# Altium footprint library WE-BMS.PcbLib: 9 footprints
Each footprint in its own frame and in the unit in brackets; x right, y up, seen from the top. Pads: shape width x height; smd on the part's side, far side on the other; paste and mask are expansions set on the pad; w line width, h text height; cw(c..) or ccw(c..) is an arc to the next point about the centre after c.
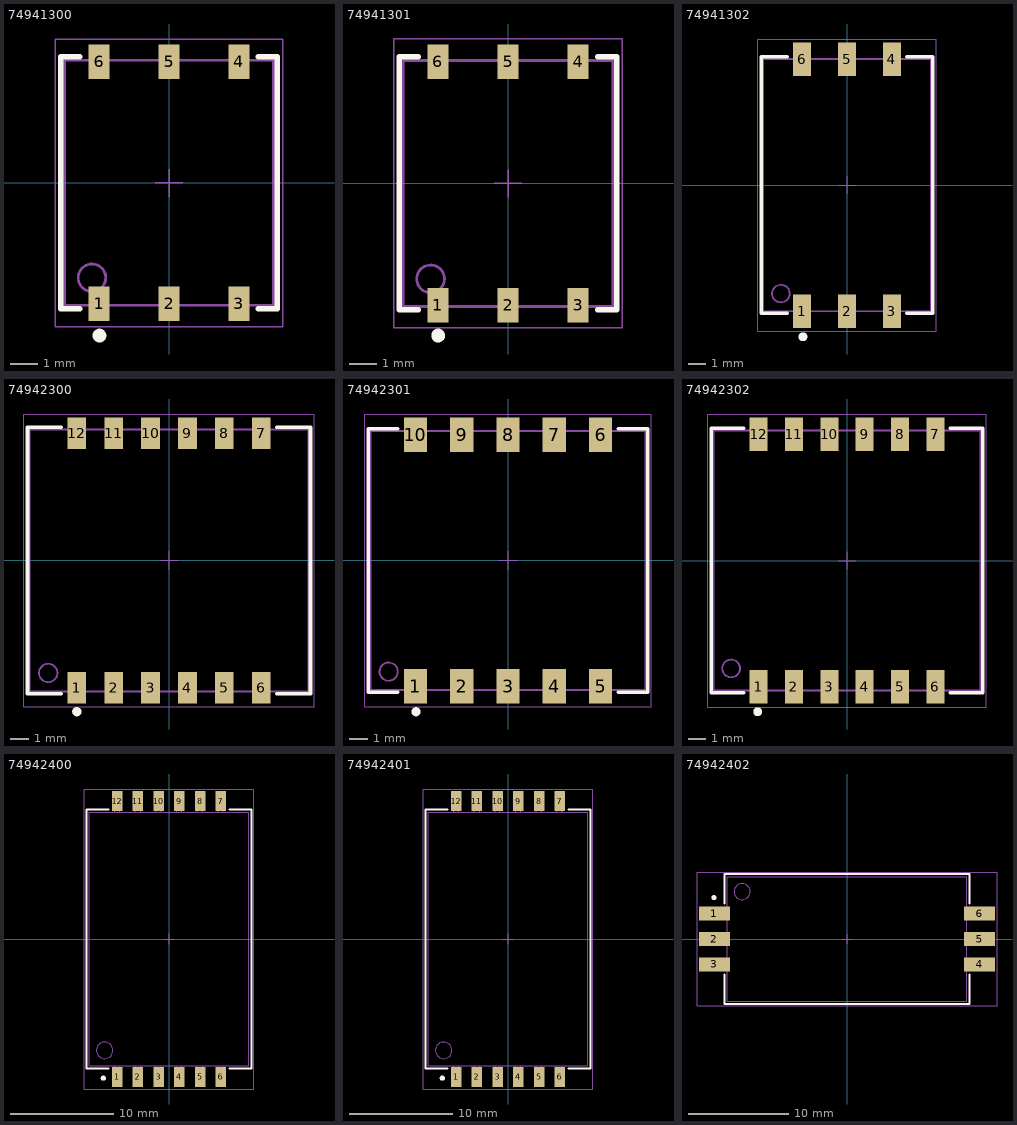
[diagram p0: the footprints below, top view; thin cyan lines are the x and y axes]

## 74941300 [mm] "SMT transformer, body 7.60x9.50mm"
height 5.75
pads (6):
  rect 0.76x1.25 smd: 1(-2.54,-4.4) 2(0,-4.4) 3(2.54,-4.4) 4(2.54,4.4) 5(0,4.4) 6(-2.54,4.4)
Top Overlay:
  circle w0.25: c-2.525,-5.55 r0.125
  lines w0.2: -3.25,-4.575 -3.925,-4.575 -3.925,4.575 -3.25,4.575 ; 3.25,-4.575 3.925,-4.575 3.925,4.575 3.25,4.575
Top Component Outline:
  circle w0.1: c-2.8,-3.45 r0.5
  lines w0.1: -3.8,-4.45 -3.8,4.45 3.8,4.45 3.8,-4.45 -3.8,-4.45
Top Courtyard:
  lines w0.05: -4.125,-5.225 4.125,-5.225 4.125,5.225 -4.125,5.225 -4.125,-5.225
Top Component Center:
  lines w0.05: -0.5,0 0.5,0 ; 0,-0.5 0,0.5
Top Designator (Mech19):
  text ".Designator" at -7.498,-0.5 h1.5
3D body "74941300.stp": height 5.41, standoff 0, extent -3.8,-4.725 3.8,4.725

## 74941301 [mm] "SMT transformer, body 7.60x9.50mm"
height 5.75
pads (6):
  rect 0.76x1.25 smd: 1(-2.54,-4.4) 2(0,-4.4) 3(2.54,-4.4) 4(2.54,4.4) 5(0,4.4) 6(-2.54,4.4)
Top Overlay:
  circle w0.25: c-2.525,-5.5 r0.125
  lines w0.2: -3.25,-4.575 -3.925,-4.575 -3.925,4.575 -3.25,4.575 ; 3.25,-4.575 3.925,-4.575 3.925,4.575 3.25,4.575
Top Component Outline:
  circle w0.1: c-2.8,-3.45 r0.5
  lines w0.1: -3.8,-4.45 3.8,-4.45 3.8,4.45 -3.8,4.45 -3.8,-4.45
Top Courtyard:
  lines w0.05: -4.125,-5.225 -4.125,5.225 4.125,5.225 4.125,-5.225 -4.125,-5.225
Top Component Center:
  lines w0.05: -0.5,0 0.5,0 ; 0,-0.5 0,0.5
Top Designator (Mech19):
  text ".Designator" at -7.498,-0.5 h1.5
3D body "74941301.stp": height 5.41, standoff 0, extent -3.8,-4.725 3.8,4.725

## 74941302 [mm] "SMT transformer, body 9.50x15.40mm"
height 3.7
pads (6):
  rect 1.02x1.89 smd: 1(-2.54,-7.145) 2(0,-7.145) 3(2.54,-7.145) 4(2.54,7.145) 5(0,7.145) 6(-2.54,7.145)
Top Overlay:
  circle w0.25: c-2.5,-8.6 r0.125
  lines w0.2: -3.4,-7.275 -4.875,-7.275 -4.875,7.275 -3.4,7.275 ; 3.4,-7.275 4.875,-7.275 4.875,7.275 3.4,7.275
Top Component Outline:
  circle w0.1: c-3.75,-6.15 r0.5
  lines w0.1: -4.75,-7.15 -4.75,7.15 4.75,7.15 4.75,-7.15 -4.75,-7.15
Top Courtyard:
  lines w0.05: -5.075,-8.29 5.075,-8.29 5.075,8.29 -5.075,8.29 -5.075,-8.29
Top Component Center:
  lines w0.05: -0.5,0 0.5,0 ; 0,-0.5 0,0.5
Top Designator (Mech19):
  text ".Designator" at -7.498,-0.5 h1.5
3D body "74941302.stp": height 3.35, standoff 0, extent -4.75,-7.65 4.75,7.65

## 74942300 [mm] "SMT transformer, body 15.10x14.70mm"
height 4.75
pads (12):
  rect 1.01x1.71 smd: 1(-5,-6.89) 2(-3,-6.89) 3(-1,-6.89) 4(1,-6.89) 5(3,-6.89) 6(5,-6.89) 7(5,6.89) 8(3,6.89) 9(1,6.89) 10(-1,6.89) 11(-3,6.89) 12(-5,6.89)
Top Overlay:
  circle w0.25: c-5,-8.2 r0.125
  lines w0.2: -5.85,-7.225 -7.675,-7.225 -7.675,7.225 -5.85,7.225 ; 5.85,-7.225 7.675,-7.225 7.675,7.225 5.85,7.225
Top Component Outline:
  circle w0.1: c-6.55,-6.1 r0.5
  lines w0.1: -7.55,-7.1 -7.55,7.1 7.55,7.1 7.55,-7.1 -7.55,-7.1
Top Courtyard:
  lines w0.05: -7.875,-7.945 -7.875,7.945 7.875,7.945 7.875,-7.945 -7.875,-7.945
Top Component Center:
  lines w0.05: -0.5,0 0.5,0 ; 0,-0.5 0,0.5
Top Designator (Mech19):
  text ".Designator" at -7.498,-0.5 h1.5
3D body "74942300.stp": height 4.85, standoff 0, extent -7.55,-7.35 7.55,7.35

## 74942301 [mm] "SMT transformer, body 15.10x14.90mm"
height 3.7
pads (10):
  rect 1.27x1.89 smd: 1(-5.08,-6.895) 2(-2.54,-6.895) 3(0,-6.895) 4(2.54,-6.895) 5(5.08,-6.895) 6(5.08,6.895) 7(2.54,6.895) 8(0,6.895) 9(-2.54,6.895) 10(-5.08,6.895)
Top Overlay:
  circle w0.25: c-5.05,-8.3 r0.125
  lines w0.2: -6.05,-7.225 -7.675,-7.225 -7.675,7.225 -6.05,7.225 ; 6.05,-7.225 7.675,-7.225 7.675,7.225 6.05,7.225
Top Component Outline:
  circle w0.1: c-6.55,-6.1 r0.5
  lines w0.1: -7.55,-7.1 7.55,-7.1 7.55,7.1 -7.55,7.1 -7.55,-7.1
Top Courtyard:
  lines w0.05: -7.875,-8.04 -7.875,8.04 7.875,8.04 7.875,-8.04 -7.875,-8.04
Top Component Center:
  lines w0.05: -0.5,0 0.5,0 ; 0,-0.5 0,0.5
Top Designator (Mech19):
  text ".Designator" at -7.498,-0.5 h1.5
3D body "74942301.stp": height 3.35, standoff 0, extent -7.55,-7.4 7.55,7.4

## 74942302 [mm] "SMT transformer, body 15.10x15.40mm"
height 3.7
pads (12):
  rect 1.02x1.89 smd: 1(-5,-7.145) 2(-3,-7.145) 3(-1,-7.145) 4(1,-7.145) 5(3,-7.145) 6(5,-7.145) 7(5,7.145) 8(3,7.145) 9(1,7.145) 10(-1,7.145) 11(-3,7.145) 12(-5,7.145)
Top Overlay:
  circle w0.25: c-5.05,-8.55 r0.125
  lines w0.2: -5.85,-7.475 -7.675,-7.475 -7.675,7.475 -5.85,7.475 ; 5.85,-7.475 7.675,-7.475 7.675,7.475 5.85,7.475
Top Component Outline:
  circle w0.1: c-6.55,-6.1 r0.5
  lines w0.1: -7.55,-7.35 -7.55,7.35 7.55,7.35 7.55,-7.35 -7.55,-7.35
Top Courtyard:
  lines w0.05: -7.875,-8.29 -7.875,8.29 7.875,8.29 7.875,-8.29 -7.875,-8.29
Top Component Center:
  lines w0.05: -0.5,0 0.5,0 ; 0,-0.5 0,0.5
Top Designator (Mech19):
  text ".Designator" at -7.498,-0.5 h1.5
3D body "74942302.stp": height 3.35, standoff 0, extent -7.55,-7.65 7.55,7.65

## 74942400 [mm] "SMT transformer 2 channel, body 15.45 x 24.52 mm"
height 4.85
pads (12):
  rect 1.02x1.95 smd: 1(-5,-13.325) 2(-3,-13.325) 3(-1,-13.325) 4(1,-13.325) 5(3,-13.325) 6(5,-13.325) 7(5,13.325) 8(3,13.325) 9(1,13.325) 10(-1,13.325) 11(-3,13.325) 12(-5,13.325)
Top Overlay:
  circle w0.25: c-6.35,-13.45 r0.125
  lines w0.2: -5.85,-12.51 -7.975,-12.51 -7.975,12.51 -5.85,12.51 ; 5.85,-12.51 7.975,-12.51 7.975,12.51 5.85,12.51
Top Component Outline:
  circle w0.1: c-6.225,-10.76 r0.8
  lines w0.1: -5.25,-12.26 -5.25,-13.927 -4.75,-13.927 -4.75,-12.26 ; -5.25,12.26 -5.25,13.927 -4.75,13.927 -4.75,12.26 ; -3.25,-12.26 -3.25,-13.927 -2.75,-13.927 -2.75,-12.26 ; -3.25,12.26 -3.25,13.927 -2.75,13.927 -2.75,12.26 ; -1.25,-12.26 -1.25,-13.927 -0.75,-13.927 -0.75,-12.26 ; -1.25,12.26 -1.25,13.927 -0.75,13.927 -0.75,12.26 ; 0.75,-12.26 0.75,-13.927 1.25,-13.927 1.25,-12.26 ; 0.75,12.26 0.75,13.927 1.25,13.927 1.25,12.26 ; 2.75,-12.26 2.75,-13.927 3.25,-13.927 3.25,-12.26 ; 2.75,12.26 2.75,13.927 3.25,13.927 3.25,12.26 ; 4.75,-12.26 4.75,-13.927 5.25,-13.927 5.25,-12.26 ; 4.75,12.26 4.75,13.927 5.25,13.927 5.25,12.26 ; -7.725,-12.26 -7.725,12.26 7.725,12.26 7.725,-12.26 -7.725,-12.26
Top Courtyard:
  lines w0.05: -8.175,-14.5 8.175,-14.5 8.175,14.5 -8.175,14.5 -8.175,-14.5
Top Component Center:
  lines w0.05: -0.5,0 0.5,0 ; 0,-0.5 0,0.5
Top Designator (Mech19):
  text ".Designator" at -7.498,-0.5 h1.5
3D body "74942400.stp": height 4.87, standoff 0.02, extent -7.725,-13.927 7.725,13.927

## 74942401 [mm] "SMT transformer 2 channel, body 15.45 x 24.52 mm"
height 4.85
pads (12):
  rect 1.02x1.95 smd: 1(-5,-13.325) 2(-3,-13.325) 3(-1,-13.325) 4(1,-13.325) 5(3,-13.325) 6(5,-13.325) 7(5,13.325) 8(3,13.325) 9(1,13.325) 10(-1,13.325) 11(-3,13.325) 12(-5,13.325)
Top Overlay:
  circle w0.25: c-6.35,-13.45 r0.125
  lines w0.2: -5.85,-12.51 -7.975,-12.51 -7.975,12.51 -5.85,12.51 ; 5.85,-12.51 7.975,-12.51 7.975,12.51 5.85,12.51
Top Component Outline:
  circle w0.1: c-6.225,-10.76 r0.8
  lines w0.1: -5.25,-12.26 -5.25,-13.927 -4.75,-13.927 -4.75,-12.26 ; -5.25,12.26 -5.25,13.927 -4.75,13.927 -4.75,12.26 ; -3.25,-12.26 -3.25,-13.927 -2.75,-13.927 -2.75,-12.26 ; -3.25,12.26 -3.25,13.927 -2.75,13.927 -2.75,12.26 ; -1.25,-12.26 -1.25,-13.927 -0.75,-13.927 -0.75,-12.26 ; -1.25,12.26 -1.25,13.927 -0.75,13.927 -0.75,12.26 ; 0.75,-12.26 0.75,-13.927 1.25,-13.927 1.25,-12.26 ; 0.75,12.26 0.75,13.927 1.25,13.927 1.25,12.26 ; 2.75,-12.26 2.75,-13.927 3.25,-13.927 3.25,-12.26 ; 2.75,12.26 2.75,13.927 3.25,13.927 3.25,12.26 ; 4.75,-12.26 4.75,-13.927 5.25,-13.927 5.25,-12.26 ; 4.75,12.26 4.75,13.927 5.25,13.927 5.25,12.26 ; -7.725,-12.26 -7.725,12.26 7.725,12.26 7.725,-12.26 -7.725,-12.26
Top Courtyard:
  lines w0.05: -8.175,-14.5 8.175,-14.5 8.175,14.5 -8.175,14.5 -8.175,-14.5
Top Component Center:
  lines w0.05: -0.5,0 0.5,0 ; 0,-0.5 0,0.5
Top Designator (Mech19):
  text ".Designator" at -7.498,-0.5 h1.5
3D body "74942401.stp": height 4.87, standoff 0.02, extent -7.725,-13.927 7.725,13.927

## 74942402 [mm] "SMT transformer, body 24.00 x 12.50 mm"
height 7.3
pads (6):
  rect 3.1x1.4 smd: 1(-13.275,2.54) 2(-13.275,0) 3(-13.275,-2.54) 4(13.275,-2.54) 5(13.275,0) 6(13.275,2.54)
Top Overlay:
  circle w0.25: c-13.324,4.139 r0.125
  lines w0.2: -12.25,-3.55 -12.25,-6.5 12.25,-6.5 12.25,-3.55 ; -12.25,3.55 -12.25,6.5 12.25,6.5 12.25,3.55
Top Component Outline:
  circle w0.1: c-10.5,4.75 r0.8
  lines w0.1: -12,-2.89 -14,-2.89 -14,-2.19 -12,-2.19 ; -12,-0.35 -14,-0.35 -14,0.35 -12,0.35 ; -12,2.19 -14,2.19 -14,2.89 -12,2.89 ; 12,-2.89 14,-2.89 14,-2.19 12,-2.19 ; 12,-0.35 14,-0.35 14,0.35 12,0.35 ; 12,2.19 14,2.19 14,2.89 12,2.89 ; -12,-6.25 -12,6.25 12,6.25 12,-6.25 -12,-6.25
Top Courtyard:
  lines w0.05: -15.025,-6.7 -15.025,6.7 15.025,6.7 15.025,-6.7 -15.025,-6.7
Top Component Center:
  lines w0.05: -0.5,0 0.5,0 ; 0,-0.5 0,0.5
Top Designator (Mech19):
  text ".Designator" at -7.498,-0.5 h1.5
3D body "74942402.stp": height 7.3, standoff 0, extent -14.002,-6.25 14.002,6.25